# EAGLE library part CONNECTOR_INT_EXT (library nerdvellous-house-manager)
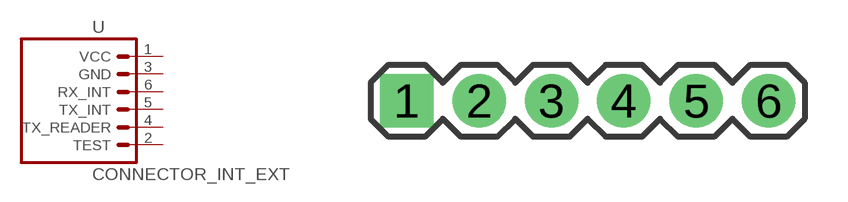
[diagram p0: symbol with the pads of 1X06_POL; footprint 1X06_POL]

Designator prefix U

## CONNECTOR_INT_EXT  [1X06_POL]
1  VCC  pas
2  TEST  pas
3  GND  pas
4  TX_READER  pas
5  TX_INT  pas
6  RX_INT  pas

## Footprint 1X06_POL (pad centres in mm)
drill 1.016 pad 1.88 square: 1 0,0
drill 1.016 pad 1.88: 2 2.54,0; 3 5.08,0; 4 7.62,0; 5 10.16,0; 6 12.7,0